# EAGLE library part NC7SZ11P6X (library Fairchild_By_element14_Batch_1)
3-Input AND Gate
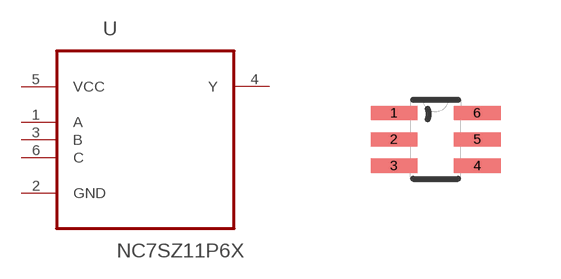
[diagram p351: symbol with the pads of SOT65P210X110-6N; footprint SOT65P210X110-6N]

Designator prefix U

## NC7SZ11P6X (MPN: NC7SZ11P6X; OC_FARNELL: 1607788; OC_NEWARK: 58K9467; PACKAGE: SC-70-6; SUPPLIER: Fairchild Semiconductor)  [SOT65P210X110-6N]
1  A  in
2  GND  pas
3  B  in
4  Y  out
5  VCC  pwr
6  C  in

## Footprint SOT65P210X110-6N (pad centres in mm)
smd 1.168 x 0.356: 1 -1.041,0.66; 2 -1.041,0; 3 -1.041,-0.66; 4 1.041,-0.66; 5 1.041,0; 6 1.041,0.66